# Altium schematic symbol library JDLib.SchLib: 23 symbols
Pins are listed as number, name and electrical type; pins without a type are passive.

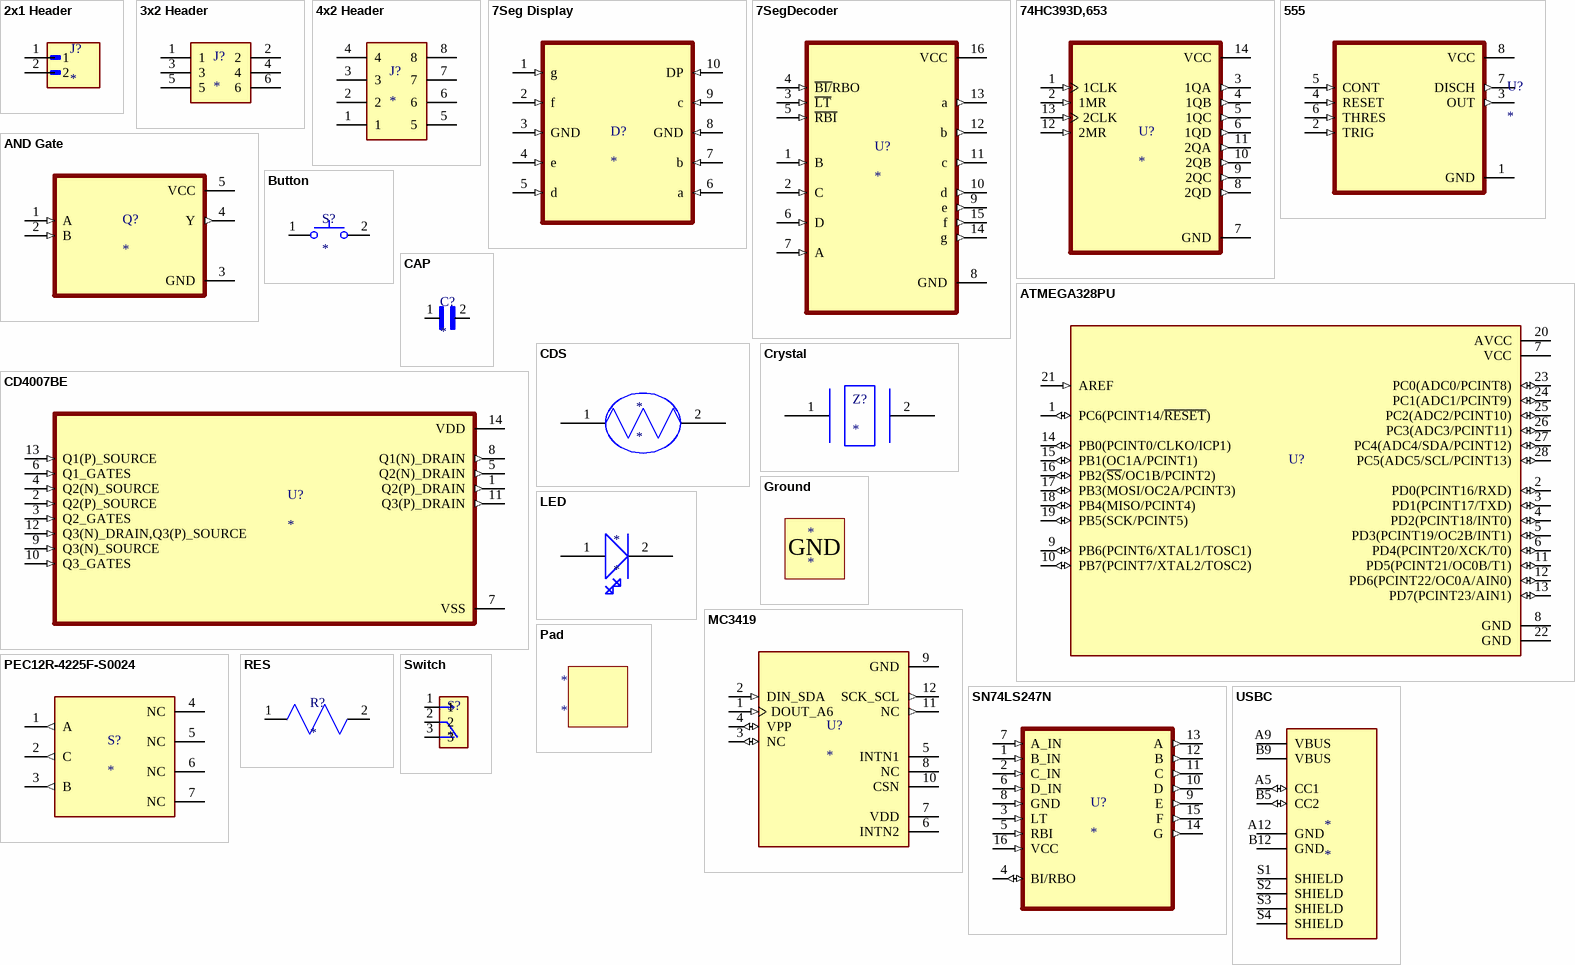
[diagram p0: symbols 2x1 Header to USBC]

## 2x1 Header
designator J?
footprint 2x1 Header
pins: 1, 2

## 3x2 Header
designator J?
footprint 3x2 Header
pins: 1, 2, 3, 4, 5, 6

## 4x2 Header
designator J?
footprint 4x2 Header
pins: 1, 2, 3, 4, 5, 6, 7, 8

## 7Seg Display
designator D?
footprint 7 Seg
pins: 1 g (in), 2 f (in), 3 GND (in), 4 e (in), 5 d (in), 6 a (in), 7 b (in), 8 GND (in), 9 c (in), 10 DP (in)

## 7SegDecoder
designator U?
footprint DisplayDecoder
pins: 1 B (in), 2 C (in), 3 ~{LT} (in), 4 ~{BI/}RBO (in), 5 ~{RBI} (in), 6 D (in), 7 A (in), 8 GND (power), 9 e (out), 10 d (out), 11 c (out), 12 b (out), 13 a (out), 14 g (out), 15 f (out), 16 VCC (power)

## 74HC393D,653
designator U?
4 bit Counter
footprint SOIC14 3.9mm
pins: 1 1CLK (in), 2 1MR (in), 3 1QA (out), 4 1QB (out), 5 1QC (out), 6 1QD (out), 7 GND (power), 8 2QD (out), 9 2QC (out), 10 2QB (out), 11 2QA (out), 12 2MR (in), 13 2CLK (in), 14 VCC (power)

## 555
designator U?
footprint 555
footprint CD4007BE
pins: 1 GND (power), 2 TRIG (in), 3 OUT (out), 4 RESET (in), 5 CONT (in), 6 THRES (in), 7 DISCH (out), 8 VCC (power)

## AND Gate
designator Q?
footprint SOT65P210X110-5N
pins: 1 A (in), 2 B (in), 3 GND (power), 4 Y (out), 5 VCC (power)

## ATMEGA328PU
designator U?  (value not drawn)
footprint ATMEGA328P
pins: 1 PC6(PCINT14/~{RESET}) (io), 2 PD0(PCINT16/RXD) (io), 3 PD1(PCINT17/TXD) (io), 4 PD2(PCINT18/INT0) (io), 5 PD3(PCINT19/OC2B/INT1) (io), 6 PD4(PCINT20/XCK/T0) (io), 7 VCC (power), 8 GND (power), 9 PB6(PCINT6/XTAL1/TOSC1) (io), 10 PB7(PCINT7/XTAL2/TOSC2) (io), 11 PD5(PCINT21/OC0B/T1) (io), 12 PD6(PCINT22/OC0A/AIN0) (io), 13 PD7(PCINT23/AIN1) (io), 14 PB0(PCINT0/CLKO/ICP1) (io), 15 PB1(OC1A/PCINT1) (io), 16 PB2(~{SS}/OC1B/PCINT2) (io), 17 PB3(MOSI/OC2A/PCINT3) (io), 18 PB4(MISO/PCINT4) (io), 19 PB5(SCK/PCINT5) (io), 20 AVCC (power), 21 AREF (in), 22 GND (power), 23 PC0(ADC0/PCINT8) (io), 24 PC1(ADC1/PCINT9) (io), 25 PC2(ADC2/PCINT10) (io), 26 PC3(ADC3/PCINT11) (io), 27 PC4(ADC4/SDA/PCINT12) (io), 28 PC5(ADC5/SCL/PCINT13) (io)

## Button
designator S?
footprint Pushbutton
pins: 1 =name, 2 =name

## CAP
designator C?
Value: 0.01uF
footprint 0402Basic
footprint 0402Basic
footprint RADIAL_THRU
pins: 1, 2

## CD4007BE
designator U?
footprint CD4007BE
pins: 1 Q2(P)_DRAIN (out), 2 Q2(P)_SOURCE (in), 3 Q2_GATES (in), 4 Q2(N)_SOURCE (in), 5 Q2(N)_DRAIN (out), 6 Q1_GATES (in), 7 VSS (power), 8 Q1(N)_DRAIN (out), 9 Q3(N)_SOURCE (in), 10 Q3_GATES (in), 11 Q3(P)_DRAIN (out), 12 Q3(N)_DRAIN,Q3(P)_SOURCE (in), 13 Q1(P)_SOURCE (in), 14 VDD (power)

## CDS
designator *
footprint RADIAL_THRU
pins: 1 =name, 2 =name

## Crystal
designator Z?
footprint Crystal
pins: 1 =name, 2 =name

## Ground
designator *
footprint Via Pad
footprint THRU_PAD
pins: 1
text: GND

## LED
designator *
footprint RADIAL_THRU
pins: 1 =name, 2 =name

## MC3419
designator U?
3-AXIS ACCELEROMETER
footprint 12-VFLGA
pins: 1 DOUT_A6 (in), 2 DIN_SDA (in), 3 NC (io), 4 VPP (io), 5 INTN1, 6 INTN2 (power), 7 VDD, 8 NC, 9 GND (power), 10 CSN, 11 NC (out), 12 SCK_SCL (out)

## Pad
designator *
footprint Pad
footprint THRU_PAD
pins: 1

## PEC12R-4225F-S0024
designator S?
ROTARY ENCODER MECHANICAL 24PPR
footprint Rotary Encoder
pins: 1 A (out), 2 C (out), 3 B (out), 4 NC, 5 NC, 6 NC, 7 NC

## RES
designator R?
footprint 0402Basic
footprint RESISTOR_THRU
pins: 1 =name, 2 =name

## SN74LS247N
designator U?
footprint 16 DIP (0.300", 7.62mm)
pins: 1 B_IN (in), 2 C_IN (in), 3 LT (in), 4 BI/RBO (io), 5 RBI (in), 6 D_IN (in), 7 A_IN (in), 8 GND (in), 9 E (out), 10 D (out), 11 C (out), 12 B (out), 13 A (out), 14 G (out), 15 F (out), 16 VCC (in)

## Switch
designator S?
footprint Slide Switch
pins: 1, 2, 3

## USBC
designator *
footprint USBC
pins: A5 CC1 (io), A9 VBUS (power), A12 GND (power), B5 CC2 (io), B9 VBUS (power), B12 GND (power), S1 SHIELD, S2 SHIELD, S3 SHIELD, S4 SHIELD